# Altium schematic symbol library SCH - CONNECTORS - MOLEX 43045-0421.Schlib: 1 symbol
Pins are listed as number, name and electrical type; pins without a type are passive.

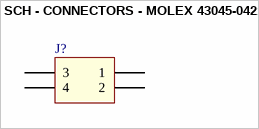
[diagram p0: symbol SCH - CONNECTORS - MOLEX 43045-0421]

## SCH - CONNECTORS - MOLEX 43045-0421
designator J?
footprint 43045-0421 (Micro-Fit 3.0 Right Angle Header, 3.00mm Pitch, Dual Row, 4 Circuits, with Snap-in Plastic Peg PCB Lock, Tin, Glow Wire Capable, Black)
pins: 1, 2, 3, 4